# Altium schematic symbol library TPS56320X.Schlib: 1 symbol
Pins are listed as number, name and electrical type; pins without a type are passive.

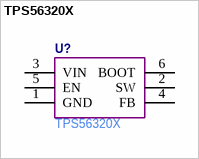
[diagram p0: symbol TPS56320X]

## TPS56320X
designator U?
Manufacturer Part Number: TPS56320X
pins: 1 GND, 2 SW, 3 VIN, 4 FB, 5 EN, 6 BOOT